# Altium schematic symbol library cap470n400v.SchLib: 1 symbol
Pins are listed as number, name and electrical type; pins without a type are passive.

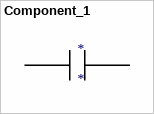
[diagram p0: symbol Component_1]

## Component_1
designator *
footprint Cap470n400v
pins: 0, 1